# Altium schematic symbol library RBR-RAMON.SchLib: 1 symbol
Pins are listed as number, name and electrical type; pins without a type are passive.

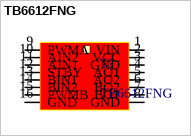
[diagram p0: symbol TB6612FNG]

## TB6612FNG
designator T?
pins: 1 VIN, 2 VCC, 3 GND, 4 AO1, 5 AO2, 6 BO2, 7 BO1, 8 GND, 9 PWMA, 10 AIN2, 11 AIN1, 12 STBY, 13 BIN1, 14 BIN2, 15 PWMB, 16 GND